# EAGLE library part MEM2085-00-115-00-A (library MEM2085-00-115-00-A)
Memory Card Connectors Micro SD Push Pull SMT 1.15mm No Peg Source: Datasheet <https://gct.co/files/drawings/mem2085.pdf>
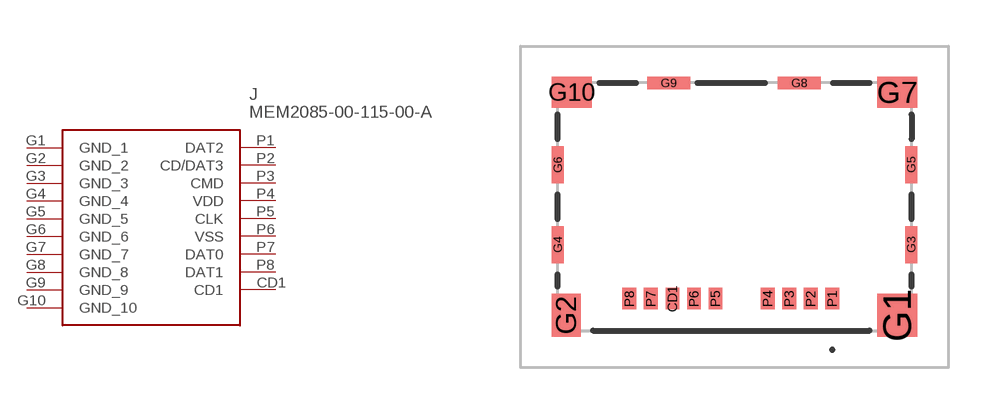
[diagram p0: symbol with the pads of MEM20850011500A; footprint MEM20850011500A]

Designator prefix J

## MEM2085-00-115-00-A (Description: Memory Card Connectors Micro SD Push Pull SMT 1.15mm No Peg; Height: 1.35mm; Manufacturer_Name: GCT (GLOBAL CONNECTOR TECHNOLOGY); Manufacturer_Part_Number: MEM2085-00-115-00-A; Mouser_Part_Number: 640-MEM20850011500A; Mouser_Price-Stock: https://www.mouser.co.uk/ProductDetail/GCT/MEM2085-00-115-00-A?qs=rQFj71Wb1eWNkFUhuuvVIA%3D%3D)  [MEM20850011500A]
CD1  CD1
G1  GND_1
G2  GND_2
G3  GND_3
G4  GND_4
G5  GND_5
G6  GND_6
G7  GND_7
G8  GND_8
G9  GND_9
G10  GND_10
P1  DAT2
P2  CD/DAT3
P3  CMD
P4  VDD
P5  CLK
P6  VSS
P7  DAT0
P8  DAT1

## Footprint MEM20850011500A (pad centres in mm)
MEM2085-00-115-00-A-3
smd 0.45 x 0.7: CD1 -2.02,-2.99; P1 3.18,-2.99; P2 2.48,-2.99; P3 1.78,-2.99; P4 1.08,-2.99; P5 -0.62,-2.99; P6 -1.32,-2.99; P7 -2.72,-2.99; P8 -3.42,-2.99
smd 1.3 x 1.4: G1 5.3,-3.53
smd 0.95 x 1.4: G2 -5.475,-3.53
smd 0.4 x 1.2: G3 5.75,-1.23; G4 -5.75,-1.23; G5 5.75,1.37; G6 -5.75,1.37
smd 1.3 x 1: G7 5.3,3.73; G10 -5.3,3.73
smd 1.4 x 0.4: G8 2.11,4.03; G9 -2.14,4.03